# EAGLE library part LTC4412 (library bschulz)
LTC4412 - Low Loss PowerPath Controller (ORing FET Controller) Characteristics: Vin: 2.5V ~ 28V IQ: 11μA typ Operating Temperature: -40°C to 125°C Digikey: LTC4412ES6#TRPBFCT-ND <https://www.digikey.com/product-detail/en/linear-technology-analog-devices/LTC4412ES6-TRPBF/LTC4412ES6-TRPBFCT-ND/4694482>
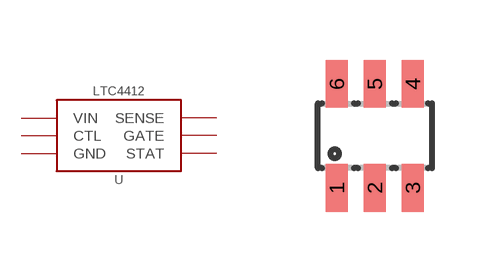
[diagram p74: symbol with the pads of SOT23-6L; footprint SOT23-6L]

Designator prefix U

## LTC4412S6 (DIGIKEY: LTC4412ES6#TRPBFCT-ND; MF: LT; MPN: LTC4412ES6#TRPBF)  [SOT23-6L]
1  VIN  pwr
2  GND  pwr
3  CTL  out
4  STAT  out
5  GATE  out
6  SENSE  in

## Footprint SOT23-6L (pad centres in mm)
Small Outline Transistor
smd 0.55 x 1.2: 1 -0.95,-1.3; 2 0,-1.3; 3 0.95,-1.3; 4 0.95,1.3; 5 0,1.3; 6 -0.95,1.3